# EAGLE library part COMPARATOR:ADCMP553(0.75NS-PECL) (library QuantumOptics)
ADCMP553, AnaDev, PECL comparator, 750ps, +3.3V.
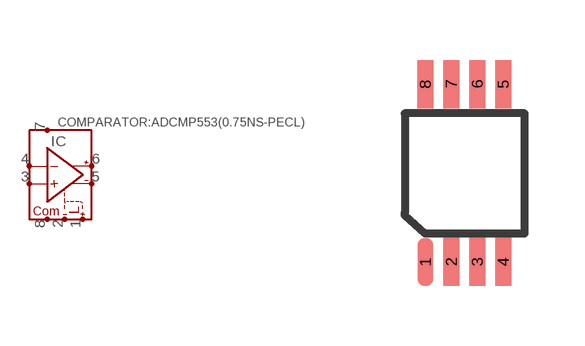
[diagram p42: symbol with the pads of MSOP8; footprint MSOP8]

Designator prefix IC

## COMPARATOR:ADCMP553(0.75NS-PECL)  [MSOP8]
1  LA-  nc
2  LA+  nc
3  IN+
4  IN-
5  Q-
6  Q+
7  VCC
8  COM

## Footprint MSOP8 (pad centres in mm)
MSOP-8, A.K.A. RM-8. Use 0.025" grid.
smd 0.4 x 1.2: 1 -0.65,-1.905; 2 0,-1.905; 3 0.65,-1.905; 4 1.3,-1.905; 5 1.3,2.54; 6 0.65,2.54; 7 0,2.54; 8 -0.65,2.54